# EAGLE library part INA128PA (library INA128PA)
Instrumentation amplifier,INA128PA DIP8 Texas Instruments INA128PA Instrumentation Amplifier, 125uV Offset 1.3MHz GBW, CMMR 73dB, 8-Pin PDIP Source: Datasheet <http://www.ti.com/lit/ds/symlink/ina128.pdf>
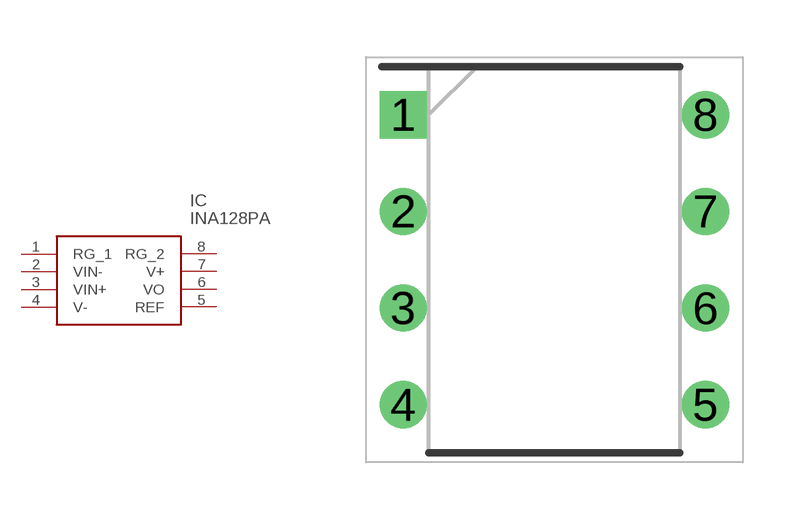
[diagram p0: symbol with the pads of DIP794W53P254L959H508Q8N; footprint DIP794W53P254L959H508Q8N]

Designator prefix IC

## INA128PA (Description: Instrumentation amplifier,INA128PA DIP8 Texas Instruments INA128PA Instrumentation Amplifier, 125uV Offset 1.3MHz GBW, CMMR 73dB, 8-Pin PDIP; Height: 5.08mm; Manufacturer_Name: Texas Instruments; Manufacturer_Part_Number: INA128PA; Mouser_Part_Number: 595-INA128PA; Mouser_Price-Stock: https://www.mouser.co.uk/ProductDetail/Texas-Instruments/INA128PA?qs=VBduBm9rCJQJnrDRwX514g%3D%3D)  [DIP794W53P254L959H508Q8N]
1  RG_1
2  VIN-
3  VIN+
4  V-
5  REF
6  VO
7  V+
8  RG_2

## Footprint DIP794W53P254L959H508Q8N (pad centres in mm)
P (R-PDIP-T8)
drill 0.73 pad 1.13 square: 1 -3.97,3.81
drill 0.73 pad 1.13: 2 -3.97,1.27; 3 -3.97,-1.27; 4 -3.97,-3.81; 5 3.97,-3.81; 6 3.97,-1.27; 7 3.97,1.27; 8 3.97,3.81